# EAGLE library part LEON-G1 (library ubloxLib)
LEON-G1: quad-band GSM/GPRS data & voice module u-blox.com
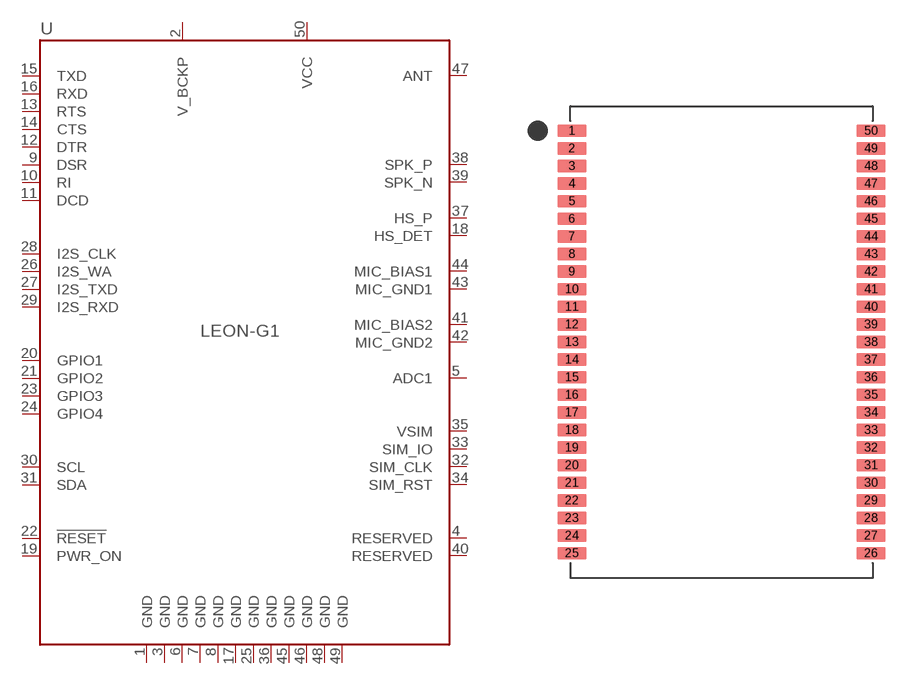
[diagram p12: symbol with the pads of LEON-50; footprint LEON-50]

Designator prefix U

## LEON-G1  [LEON-50]
1  GND  pwr
2  V_BCKP  pwr
3  GND  pwr
4  RESERVED  nc
5  ADC1  in
6  GND  pwr
7  GND  pwr
8  GND  pwr
9  DSR  out
10  RI  out
11  DCD  out
12  DTR  in
13  RTS  in
14  CTS  out
15  TXD  in
16  RXD  out
17  GND  pwr
18  HS_DET  in
19  PWR_ON  in
20  GPIO1
21  GPIO2
22  !RESET
23  GPIO3
24  GPIO4
25  GND  pwr
26  I2S_WA  out
27  I2S_TXD  out
28  I2S_CLK  out
29  I2S_RXD  in
30  SCL  out
31  SDA
32  SIM_CLK  out
33  SIM_IO
34  SIM_RST  out
35  VSIM  pwr
36  GND  pwr
37  HS_P  out
38  SPK_P  out
39  SPK_N  out
40  RESERVED  nc
41  MIC_BIAS2  in
42  MIC_GND2  pwr
43  MIC_GND1  pwr
44  MIC_BIAS1  in
45  GND  pwr
46  GND  pwr
47  ANT
48  GND  pwr
49  GND  pwr
50  VCC  pwr

## Footprint LEON-50 (pad centres in mm)
LEON-G1/G2: Castellated Package 50 Pin u-blox.com
smd 1.8 x 0.8: 1 -9.35,13.2; 2 -9.35,12.1; 3 -9.35,11; 4 -9.35,9.9; 5 -9.35,8.8; 6 -9.35,7.7; 7 -9.35,6.6; 8 -9.35,5.5; 9 -9.35,4.4; 10 -9.35,3.3; 11 -9.35,2.2; 12 -9.35,1.1; 13 -9.35,0; 14 -9.35,-1.1; 15 -9.35,-2.2; 16 -9.35,-3.3; 17 -9.35,-4.4; 18 -9.35,-5.5; 19 -9.35,-6.6; 20 -9.35,-7.7; 21 -9.35,-8.8; 22 -9.35,-9.9; 23 -9.35,-11; 24 -9.35,-12.1; 25 -9.35,-13.2; 26 9.35,-13.2; 27 9.35,-12.1; 28 9.35,-11; 29 9.35,-9.9; 30 9.35,-8.8; 31 9.35,-7.7; 32 9.35,-6.6; 33 9.35,-5.5; 34 9.35,-4.4; 35 9.35,-3.3; 36 9.35,-2.2; 37 9.35,-1.1; 38 9.35,0; 39 9.35,1.1; 40 9.35,2.2; 41 9.35,3.3; 42 9.35,4.4; 43 9.35,5.5; 44 9.35,6.6; 45 9.35,7.7; 46 9.35,8.8; 47 9.35,9.9; 48 9.35,11; 49 9.35,12.1; 50 9.35,13.2